# Altium schematic symbol library ComponentsSCHEMES1.SchLib: 2 symbols
Pins are listed as number, name and electrical type; pins without a type are passive.

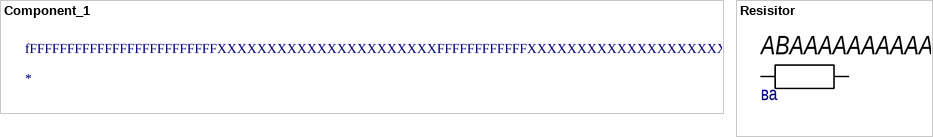
[diagram p0: symbols Component_1 to Resisitor]

## Component_1
designator fFFFFFFFFFFFFFFFFFFFFFFFFFXXXXXXXXXXXXXXXXXXXXXXFFFFFFFFFFFFXXXXXXXXXXXXXXXXXXXXXXXXXXXXXXXXXXXXXXXXXXXXXXXXXXXXXXXXXFFFFFFFFFFFFFFFFFFFFFFFFFFFFFF

## Resisitor
designator АВАААААААААААААААААААААААААААААААААААААААА, comment ва
Резистор постоянный
pins: 1, 2